# EAGLE library part BERG_8 (library dragCustom)
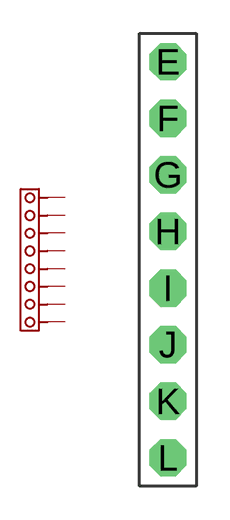
[diagram p5: symbol with the pads of BERG_8; footprint BERG_8]

Designator prefix -

## BERG_8  [BERG_8]
E  P$1
F  P$2
G  P$3
H  P$4
I  P$5
J  P$6
K  P$7
L  P$8

## Footprint BERG_8 (pad centres in mm)
drill 0.6 pad 1.676 octagon: E 0,10.16; F 0,7.62; G 0,5.08; H 0,2.54; I 0,0; J 0,-2.54; K 0,-5.08; L 0,-7.62